# Altium integrated library TI_Logic_Specialty_Logic.IntLib: 2504 symbols (part 12 of 81)
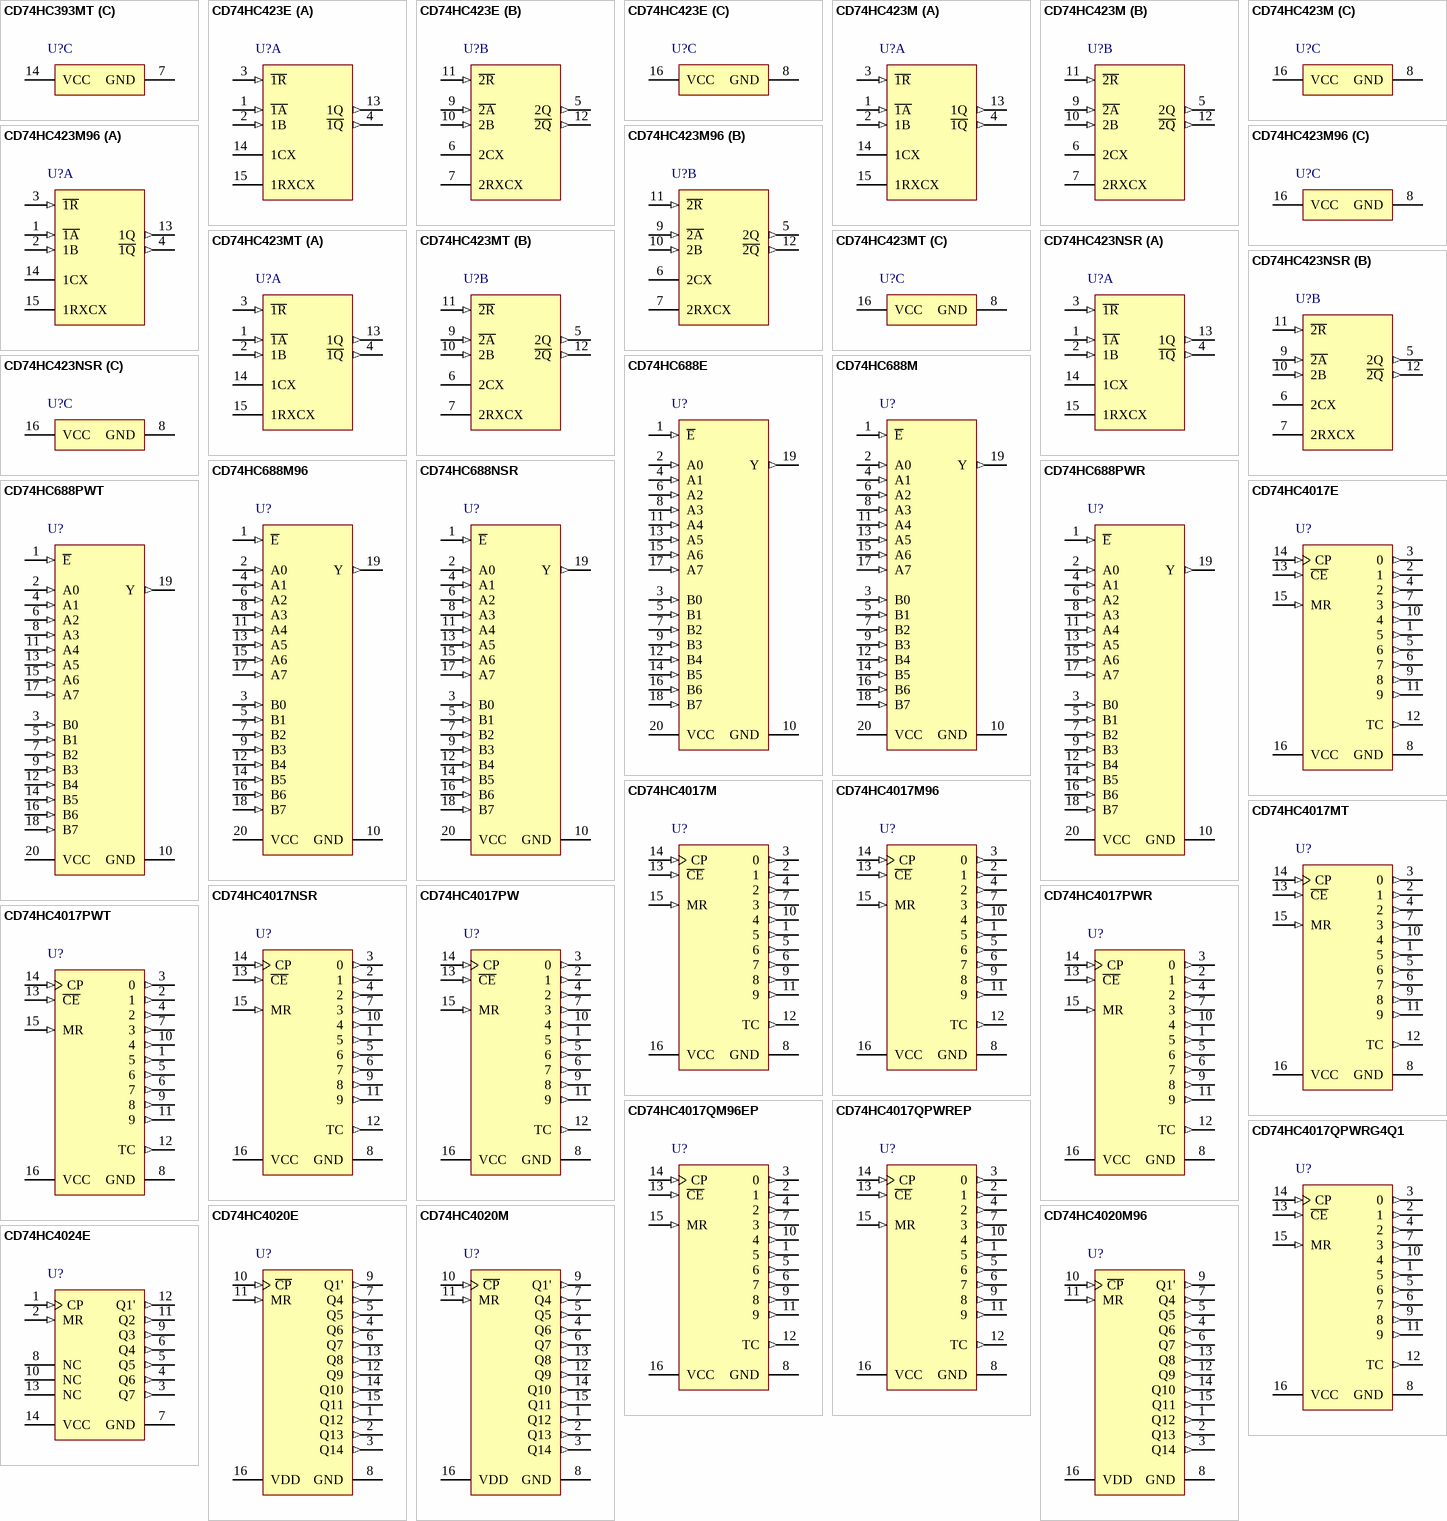
[diagram p115: symbols CD74HC393MT to CD74HC4024E]

## CD74HC688PWR
designator U?
8-Bit Identity/Magnitude Comparators (P=Q) with Enable, PW0020A, LARGE T&R; Generic Part Number: CD74HC688; Manufacturer: Texas Instruments; PartNumber: CD74HC688PWR; VCC(Min)(V): 2; VCC(Max)(V): 6; Output Type: CMOS; ICC @ Nom Voltage(Max)(mA): 0.08; Bits(#): 8; F @ Nom Voltage(Max)(Mhz): 70; Rating: Catalog; Technology Family: HC; Schmitt Trigger: No; Output Drive (IOL/IOH)(Max)(mA): 5.2/-5.2; tpd @ Nom Voltage(Max)(ns): 36; DatasheetVersion: SCHS196C; PackageReference: PW0020A; Supplier 1: Mouser; Supplier Part Number 1: 595-CD74HC688PWR; Supplier 2: Digi-Key; Supplier Part Number 2: 296-28646-2-ND; Supplier 3: Digi-Key; Supplier Part Number 3: 296-28646-1-ND; Supplier 4: Digi-Key; Supplier Part Number 4: 296-28646-6-ND; Input Type: CMOS; Operating Temperature Range(C): -55 to 125; Voltage(Nom)(V): 6; ComponentLink1Description: Manufacturer URL; ComponentLink1URL: http://www.ti.com/; ComponentLink2Description: Datasheet; ComponentLink2URL: http://www.ti.com/lit/ds/symlink/cd74hc688.pdf
footprint PW0020A_N (SOP, 20-Leads, Body 6.6x4.5mm, Pitch 0.65mm, IPC Medium Density)
footprint PW0020A_M (SOP, 20-Leads, Body 6.6x4.5mm, Pitch 0.65mm, IPC Low Density)
footprint PW0020A_L (SOP, 20-Leads, Body 6.6x4.5mm, Pitch 0.65mm, IPC High Density)
pins: 1 ~{E} (in), 2 A0 (in), 3 B0 (in), 4 A1 (in), 5 B1 (in), 6 A2 (in), 7 B2 (in), 8 A3 (in), 9 B3 (in), 10 GND (power), 11 A4 (in), 12 B4 (in), 13 A5 (in), 14 B5 (in), 15 A6 (in), 16 B6 (in), 17 A7 (in), 18 B7 (in), 19 Y (out), 20 VCC (power)

## CD74HC688PWT
designator U?
8-Bit Identity/Magnitude Comparators (P=Q) with Enable, PW0020A, SMALL T&R; Generic Part Number: CD74HC688; Manufacturer: Texas Instruments; PartNumber: CD74HC688PWT; VCC(Min)(V): 2; VCC(Max)(V): 6; Output Type: CMOS; ICC @ Nom Voltage(Max)(mA): 0.08; Bits(#): 8; F @ Nom Voltage(Max)(Mhz): 70; Rating: Catalog; Technology Family: HC; Schmitt Trigger: No; Output Drive (IOL/IOH)(Max)(mA): 5.2/-5.2; tpd @ Nom Voltage(Max)(ns): 36; DatasheetVersion: SCHS196C; PackageReference: PW0020A; Supplier 1: Mouser; Supplier Part Number 1: 595-CD74HC688PWT; Supplier 2: Digi-Key; Supplier Part Number 2: 296-28201-2-ND; Supplier 3: Digi-Key; Supplier Part Number 3: 296-28201-1-ND; Supplier 4: Digi-Key; Supplier Part Number 4: 296-28201-6-ND; Input Type: CMOS; Operating Temperature Range(C): -55 to 125; Voltage(Nom)(V): 6; ComponentLink1Description: Manufacturer URL; ComponentLink1URL: http://www.ti.com/; ComponentLink2Description: Datasheet; ComponentLink2URL: http://www.ti.com/lit/ds/symlink/cd74hc688.pdf
footprint PW0020A_N (SOP, 20-Leads, Body 6.6x4.5mm, Pitch 0.65mm, IPC Medium Density)
footprint PW0020A_M (SOP, 20-Leads, Body 6.6x4.5mm, Pitch 0.65mm, IPC Low Density)
footprint PW0020A_L (SOP, 20-Leads, Body 6.6x4.5mm, Pitch 0.65mm, IPC High Density)
pins: 1 ~{E} (in), 2 A0 (in), 3 B0 (in), 4 A1 (in), 5 B1 (in), 6 A2 (in), 7 B2 (in), 8 A3 (in), 9 B3 (in), 10 GND (power), 11 A4 (in), 12 B4 (in), 13 A5 (in), 14 B5 (in), 15 A6 (in), 16 B6 (in), 17 A7 (in), 18 B7 (in), 19 Y (out), 20 VCC (power)

## CD74HC4017E
designator U?
High Speed CMOS Logic Decade Counter/Divider with 10 Decoded Outputs, N0016A, TUBE; Generic Part Number: CD74HC4017; Manufacturer: Texas Instruments; PartNumber: CD74HC4017E; VCC(Min)(V): 2; VCC(Max)(V): 6; Inputs: 1; ICC @ Nom Voltage(Max)(mA): 0.08; Input Type: LVTTL/CMOS; Bits(#): 10; F @ Nom Voltage(Max)(Mhz): 28; Rating: Catalog; Technology Family: HC; Voltage(Nom)(V): 3.3,5; Schmitt Trigger: No; Output Drive (IOL/IOH)(Max)(mA): 5.2/-5.2; tpd @ Nom Voltage(Max)(ns): 54; DatasheetVersion: SCHS200D; PackageReference: N0016A; Supplier 1: Mouser; Supplier Part Number 1: 595-CD74HC4017E; Supplier 2: Digi-Key; Supplier Part Number 2: 296-25989-5-ND; Output Type: CMOS; Function: Counter; Operating Temperature Range(C): -55 to 125; Type: Decade; Code_JEDEC: MS-001; ComponentLink1Description: Manufacturer URL; ComponentLink1URL: http://www.ti.com/; ComponentLink2Description: Datasheet; ComponentLink2URL: http://www.ti.com/lit/ds/symlink/cd74hc4017.pdf; ComponentLink3Description: Package Specification; ComponentLink3URL: http://www.ti.com/lit/ml/mpdi002c/mpdi002c.pdf
footprint N0016A (DIP, 16-Leads, Body 19.7x6.6mm, Pitch 2.54mm)
pins: 1 5 (out), 2 1 (out), 3 0 (out), 4 2 (out), 5 6 (out), 6 7 (out), 7 3 (out), 8 GND (power), 9 8 (out), 10 4 (out), 11 9 (out), 12 TC (out), 13 ~{CE} (in), 14 CP (in), 15 MR (in), 16 VCC (power)

## CD74HC4017M
designator U?
High Speed CMOS Logic Decade Counter/Divider with 10 Decoded Outputs, D0016A, TUBE; Generic Part Number: CD74HC4017; Manufacturer: Texas Instruments; PartNumber: CD74HC4017M; VCC(Min)(V): 2; VCC(Max)(V): 6; Inputs: 1; ICC @ Nom Voltage(Max)(mA): 0.08; Input Type: LVTTL/CMOS; Bits(#): 10; F @ Nom Voltage(Max)(Mhz): 28; Rating: Catalog; Technology Family: HC; Voltage(Nom)(V): 3.3,5; Schmitt Trigger: No; Output Drive (IOL/IOH)(Max)(mA): 5.2/-5.2; tpd @ Nom Voltage(Max)(ns): 54; DatasheetVersion: SCHS200D; PackageReference: D0016A; Supplier 1: Mouser; Supplier Part Number 1: 595-CD74HC4017M; Supplier 2: Digi-Key; Supplier Part Number 2: 296-25990-5-ND; Output Type: CMOS; Function: Counter; Operating Temperature Range(C): -55 to 125; Type: Decade; Code_JEDEC: MS-012 variation AC; ComponentLink1Description: Manufacturer URL; ComponentLink1URL: http://www.ti.com/; ComponentLink2Description: Datasheet; ComponentLink2URL: http://www.ti.com/lit/ds/symlink/cd74hc4017.pdf; ComponentLink3Description: Package Specification; ComponentLink3URL: http://www.ti.com/lit/ml/mpds178g/mpds178g.pdf
footprint D0016A_N (SOIC, 16-Leads, Body 10x4mm, Pitch 1.27mm, IPC Medium Density)
footprint D0016A_M (SOIC, 16-Leads, Body 10x4mm, Pitch 1.27mm, IPC Low Density)
footprint D0016A_L (SOIC, 16-Leads, Body 10x4mm, Pitch 1.27mm, IPC High Density)
pins: 1 5 (out), 2 1 (out), 3 0 (out), 4 2 (out), 5 6 (out), 6 7 (out), 7 3 (out), 8 GND (power), 9 8 (out), 10 4 (out), 11 9 (out), 12 TC (out), 13 ~{CE} (in), 14 CP (in), 15 MR (in), 16 VCC (power)

## CD74HC4017M96
designator U?
High Speed CMOS Logic Decade Counter/Divider with 10 Decoded Outputs, D0016A, LARGE T&R; Generic Part Number: CD74HC4017; Manufacturer: Texas Instruments; PartNumber: CD74HC4017M96; VCC(Min)(V): 2; VCC(Max)(V): 6; Inputs: 1; ICC @ Nom Voltage(Max)(mA): 0.08; Input Type: LVTTL/CMOS; Bits(#): 10; F @ Nom Voltage(Max)(Mhz): 28; Rating: Catalog; Technology Family: HC; Voltage(Nom)(V): 3.3,5; Schmitt Trigger: No; Output Drive (IOL/IOH)(Max)(mA): 5.2/-5.2; tpd @ Nom Voltage(Max)(ns): 54; DatasheetVersion: SCHS200D; PackageReference: D0016A; Supplier 1: Mouser; Supplier Part Number 1: 595-CD74HC4017M96; Supplier 2: Digi-Key; Supplier Part Number 2: 296-12808-2-ND; Supplier 3: Digi-Key; Supplier Part Number 3: 296-12808-1-ND; Supplier 4: Digi-Key; Supplier Part Number 4: 296-12808-6-ND; Output Type: CMOS; Function: Counter; Operating Temperature Range(C): -55 to 125; Type: Decade; Code_JEDEC: MS-012 variation AC; ComponentLink1Description: Manufacturer URL; ComponentLink1URL: http://www.ti.com/; ComponentLink2Description: Datasheet; ComponentLink2URL: http://www.ti.com/lit/ds/symlink/cd74hc4017.pdf; ComponentLink3Description: Package Specification; ComponentLink3URL: http://www.ti.com/lit/ml/mpds178g/mpds178g.pdf
footprint D0016A_N (SOIC, 16-Leads, Body 10x4mm, Pitch 1.27mm, IPC Medium Density)
footprint D0016A_M (SOIC, 16-Leads, Body 10x4mm, Pitch 1.27mm, IPC Low Density)
footprint D0016A_L (SOIC, 16-Leads, Body 10x4mm, Pitch 1.27mm, IPC High Density)
pins: 1 5 (out), 2 1 (out), 3 0 (out), 4 2 (out), 5 6 (out), 6 7 (out), 7 3 (out), 8 GND (power), 9 8 (out), 10 4 (out), 11 9 (out), 12 TC (out), 13 ~{CE} (in), 14 CP (in), 15 MR (in), 16 VCC (power)

## CD74HC4017MT
designator U?
High Speed CMOS Logic Decade Counter/Divider with 10 Decoded Outputs, D0016A, SMALL T&R; Generic Part Number: CD74HC4017; Manufacturer: Texas Instruments; PartNumber: CD74HC4017MT; VCC(Min)(V): 2; VCC(Max)(V): 6; Inputs: 1; ICC @ Nom Voltage(Max)(mA): 0.08; Input Type: LVTTL/CMOS; Bits(#): 10; F @ Nom Voltage(Max)(Mhz): 28; Rating: Catalog; Technology Family: HC; Voltage(Nom)(V): 3.3,5; Schmitt Trigger: No; Output Drive (IOL/IOH)(Max)(mA): 5.2/-5.2; tpd @ Nom Voltage(Max)(ns): 54; DatasheetVersion: SCHS200D; PackageReference: D0016A; Supplier 1: Mouser; Supplier Part Number 1: 595-CD74HC4017MT; Supplier 2: Digi-Key; Supplier Part Number 2: 296-32067-2-ND; Supplier 3: Digi-Key; Supplier Part Number 3: 296-32067-1-ND; Supplier 4: Digi-Key; Supplier Part Number 4: 296-32067-6-ND; Output Type: CMOS; Function: Counter; Operating Temperature Range(C): -55 to 125; Type: Decade; Code_JEDEC: MS-012 variation AC; ComponentLink1Description: Manufacturer URL; ComponentLink1URL: http://www.ti.com/; ComponentLink2Description: Datasheet; ComponentLink2URL: http://www.ti.com/lit/ds/symlink/cd74hc4017.pdf; ComponentLink3Description: Package Specification; ComponentLink3URL: http://www.ti.com/lit/ml/mpds178g/mpds178g.pdf
footprint D0016A_N (SOIC, 16-Leads, Body 10x4mm, Pitch 1.27mm, IPC Medium Density)
footprint D0016A_M (SOIC, 16-Leads, Body 10x4mm, Pitch 1.27mm, IPC Low Density)
footprint D0016A_L (SOIC, 16-Leads, Body 10x4mm, Pitch 1.27mm, IPC High Density)
pins: 1 5 (out), 2 1 (out), 3 0 (out), 4 2 (out), 5 6 (out), 6 7 (out), 7 3 (out), 8 GND (power), 9 8 (out), 10 4 (out), 11 9 (out), 12 TC (out), 13 ~{CE} (in), 14 CP (in), 15 MR (in), 16 VCC (power)

## CD74HC4017NSR
designator U?
High Speed CMOS Logic Decade Counter/Divider with 10 Decoded Outputs, NS0016A, LARGE T&R; Generic Part Number: CD74HC4017; Manufacturer: Texas Instruments; PartNumber: CD74HC4017NSR; VCC(Min)(V): 2; VCC(Max)(V): 6; Inputs: 1; ICC @ Nom Voltage(Max)(mA): 0.08; Input Type: LVTTL/CMOS; Bits(#): 10; F @ Nom Voltage(Max)(Mhz): 28; Rating: Catalog; Technology Family: HC; Voltage(Nom)(V): 3.3,5; Schmitt Trigger: No; Output Drive (IOL/IOH)(Max)(mA): 5.2/-5.2; tpd @ Nom Voltage(Max)(ns): 54; DatasheetVersion: SCHS200D; PackageReference: NS0016A; Supplier 1: Mouser; Supplier Part Number 1: 595-CD74HC4017NSR; Supplier 2: Digi-Key; Supplier Part Number 2: 296-29989-2-ND; Supplier 3: Digi-Key; Supplier Part Number 3: 296-29989-1-ND; Supplier 4: Digi-Key; Supplier Part Number 4: 296-29989-6-ND; Output Type: CMOS; Function: Counter; Operating Temperature Range(C): -55 to 125; Type: Decade; ComponentLink1Description: Manufacturer URL; ComponentLink1URL: http://www.ti.com/; ComponentLink2Description: Datasheet; ComponentLink2URL: http://www.ti.com/lit/ds/symlink/cd74hc4017.pdf; ComponentLink3Description: Package Specification; ComponentLink3URL: http://www.ti.com/lit/ml/msop002a/msop002a.pdf
footprint NS0016A_N (SOIC,16-Leads,Body 10.5x5.6mm,Pitch 1.27mm,IPC Medium Density)
footprint NS0016A_M (SOIC,16-Leads,Body 10.5x5.6mm,Pitch 1.27mm,IPC Low Density)
footprint NS0016A_L (SOIC,16-Leads,Body 10.5x5.6mm,Pitch 1.27mm,IPC High Density)
pins: 1 5 (out), 2 1 (out), 3 0 (out), 4 2 (out), 5 6 (out), 6 7 (out), 7 3 (out), 8 GND (power), 9 8 (out), 10 4 (out), 11 9 (out), 12 TC (out), 13 ~{CE} (in), 14 CP (in), 15 MR (in), 16 VCC (power)

## CD74HC4017PW
designator U?
High Speed CMOS Logic Decade Counter/Divider with 10 Decoded Outputs, PW0016A, TUBE; Generic Part Number: CD74HC4017; Manufacturer: Texas Instruments; PartNumber: CD74HC4017PW; VCC(Min)(V): 2; VCC(Max)(V): 6; Inputs: 1; ICC @ Nom Voltage(Max)(mA): 0.08; Input Type: LVTTL/CMOS; Bits(#): 10; F @ Nom Voltage(Max)(Mhz): 28; Rating: Catalog; Technology Family: HC; Voltage(Nom)(V): 3.3,5; Schmitt Trigger: No; Output Drive (IOL/IOH)(Max)(mA): 5.2/-5.2; tpd @ Nom Voltage(Max)(ns): 54; DatasheetVersion: SCHS200D; PackageReference: PW0016A; Supplier 1: Mouser; Supplier Part Number 1: 595-CD74HC4017PW; Supplier 2: Digi-Key; Supplier Part Number 2: 296-33083-5-ND; Output Type: CMOS; Function: Counter; Operating Temperature Range(C): -55 to 125; Type: Decade; Code_JEDEC: MO-153; ComponentLink1Description: Manufacturer URL; ComponentLink1URL: http://www.ti.com/; ComponentLink2Description: Datasheet; ComponentLink2URL: http://www.ti.com/lit/ds/symlink/cd74hc4017.pdf; ComponentLink3Description: Package Specification; ComponentLink3URL: http://www.ti.com/lit/ml/mpds361/mpds361.pdf
footprint PW0016A_N (SOP, 16-Leads, Body 5.1x4.5mm, Pitch 0.65mm, IPC Medium Density)
footprint PW0016A_M (SOP, 16-Leads, Body 5.1x4.5mm, Pitch 0.65mm, IPC Low Density)
footprint PW0016A_L (SOP, 16-Leads, Body 5.1x4.5mm, Pitch 0.65mm, IPC High Density)
pins: 1 5 (out), 2 1 (out), 3 0 (out), 4 2 (out), 5 6 (out), 6 7 (out), 7 3 (out), 8 GND (power), 9 8 (out), 10 4 (out), 11 9 (out), 12 TC (out), 13 ~{CE} (in), 14 CP (in), 15 MR (in), 16 VCC (power)

## CD74HC4017PWR
designator U?
High Speed CMOS Logic Decade Counter/Divider with 10 Decoded Outputs, PW0016A, LARGE T&R; Generic Part Number: CD74HC4017; Manufacturer: Texas Instruments; PartNumber: CD74HC4017PWR; VCC(Min)(V): 2; VCC(Max)(V): 6; Inputs: 1; ICC @ Nom Voltage(Max)(mA): 0.08; Input Type: LVTTL/CMOS; Bits(#): 10; F @ Nom Voltage(Max)(Mhz): 28; Rating: Catalog; Technology Family: HC; Voltage(Nom)(V): 3.3,5; Schmitt Trigger: No; Output Drive (IOL/IOH)(Max)(mA): 5.2/-5.2; tpd @ Nom Voltage(Max)(ns): 54; DatasheetVersion: SCHS200D; PackageReference: PW0016A; Supplier 1: Mouser; Supplier Part Number 1: 595-CD74HC4017PWR; Supplier 2: Digi-Key; Supplier Part Number 2: 296-9423-2-ND; Supplier 3: Digi-Key; Supplier Part Number 3: 296-9423-1-ND; Supplier 4: Digi-Key; Supplier Part Number 4: 296-9423-6-ND; Output Type: CMOS; Function: Counter; Operating Temperature Range(C): -55 to 125; Type: Decade; Code_JEDEC: MO-153; ComponentLink1Description: Manufacturer URL; ComponentLink1URL: http://www.ti.com/; ComponentLink2Description: Datasheet; ComponentLink2URL: http://www.ti.com/lit/ds/symlink/cd74hc4017.pdf; ComponentLink3Description: Package Specification; ComponentLink3URL: http://www.ti.com/lit/ml/mpds361/mpds361.pdf
footprint PW0016A_N (SOP, 16-Leads, Body 5.1x4.5mm, Pitch 0.65mm, IPC Medium Density)
footprint PW0016A_M (SOP, 16-Leads, Body 5.1x4.5mm, Pitch 0.65mm, IPC Low Density)
footprint PW0016A_L (SOP, 16-Leads, Body 5.1x4.5mm, Pitch 0.65mm, IPC High Density)
pins: 1 5 (out), 2 1 (out), 3 0 (out), 4 2 (out), 5 6 (out), 6 7 (out), 7 3 (out), 8 GND (power), 9 8 (out), 10 4 (out), 11 9 (out), 12 TC (out), 13 ~{CE} (in), 14 CP (in), 15 MR (in), 16 VCC (power)

## CD74HC4017PWT
designator U?
High Speed CMOS Logic Decade Counter/Divider with 10 Decoded Outputs, PW0016A, SMALL T&R; Generic Part Number: CD74HC4017; Manufacturer: Texas Instruments; PartNumber: CD74HC4017PWT; VCC(Min)(V): 2; VCC(Max)(V): 6; Inputs: 1; ICC @ Nom Voltage(Max)(mA): 0.08; Input Type: LVTTL/CMOS; Bits(#): 10; F @ Nom Voltage(Max)(Mhz): 28; Rating: Catalog; Technology Family: HC; Voltage(Nom)(V): 3.3,5; Schmitt Trigger: No; Output Drive (IOL/IOH)(Max)(mA): 5.2/-5.2; tpd @ Nom Voltage(Max)(ns): 54; DatasheetVersion: SCHS200D; PackageReference: PW0016A; Supplier 1: Mouser; Supplier Part Number 1: 595-CD74HC4017PWT; Supplier 2: Digi-Key; Supplier Part Number 2: CD74HC4017PWT-ND; Output Type: CMOS; Function: Counter; Operating Temperature Range(C): -55 to 125; Type: Decade; Code_JEDEC: MO-153; ComponentLink1Description: Manufacturer URL; ComponentLink1URL: http://www.ti.com/; ComponentLink2Description: Datasheet; ComponentLink2URL: http://www.ti.com/lit/ds/symlink/cd74hc4017.pdf; ComponentLink3Description: Package Specification; ComponentLink3URL: http://www.ti.com/lit/ml/mpds361/mpds361.pdf
footprint PW0016A_N (SOP, 16-Leads, Body 5.1x4.5mm, Pitch 0.65mm, IPC Medium Density)
footprint PW0016A_M (SOP, 16-Leads, Body 5.1x4.5mm, Pitch 0.65mm, IPC Low Density)
footprint PW0016A_L (SOP, 16-Leads, Body 5.1x4.5mm, Pitch 0.65mm, IPC High Density)
pins: 1 5 (out), 2 1 (out), 3 0 (out), 4 2 (out), 5 6 (out), 6 7 (out), 7 3 (out), 8 GND (power), 9 8 (out), 10 4 (out), 11 9 (out), 12 TC (out), 13 ~{CE} (in), 14 CP (in), 15 MR (in), 16 VCC (power)

## CD74HC4017QM96EP
designator U?
Enhanced Product Decade Counter/Divider With 10 Decoded Outputs, D0016A, LARGE T&R; Generic Part Number: CD74HC4017-EP; Manufacturer: Texas Instruments; PartNumber: CD74HC4017QM96EP; VCC(Min)(V): 2; VCC(Max)(V): 6; Inputs: 1; ICC @ Nom Voltage(Max)(mA): 0.08; Bits(#): 10; F @ Nom Voltage(Max)(Mhz): 28; Rating: HiRel Enhanced Product; Technology Family: HC; Output Drive (IOL/IOH)(Max)(mA): 5.2/-5.2; tpd @ Nom Voltage(Max)(ns): 54; DatasheetVersion: SCLS550; PackageReference: D0016A; Supplier 1: Mouser; Supplier Part Number 1: 595-CD74HC4017QM96EP; Supplier 2: Digi-Key; Supplier Part Number 2: 296-22102-2-ND; Supplier 3: Digi-Key; Supplier Part Number 3: 296-22102-1-ND; Supplier 4: Digi-Key; Supplier Part Number 4: 296-22102-6-ND; Function: Counter; Operating Temperature Range(C): -40 to 125; Type: Decade; Voltage(Nom)(V): 6; Code_JEDEC: MS-012 variation AC; ComponentLink1Description: Manufacturer URL; ComponentLink1URL: http://www.ti.com/; ComponentLink2Description: Datasheet; ComponentLink2URL: http://www.ti.com/lit/ds/symlink/cd74hc4017-ep.pdf; ComponentLink3Description: Package Specification; ComponentLink3URL: http://www.ti.com/lit/ml/mpds178g/mpds178g.pdf
footprint D0016A_N (SOIC, 16-Leads, Body 10x4mm, Pitch 1.27mm, IPC Medium Density)
footprint D0016A_M (SOIC, 16-Leads, Body 10x4mm, Pitch 1.27mm, IPC Low Density)
footprint D0016A_L (SOIC, 16-Leads, Body 10x4mm, Pitch 1.27mm, IPC High Density)
pins: 1 5 (out), 2 1 (out), 3 0 (out), 4 2 (out), 5 6 (out), 6 7 (out), 7 3 (out), 8 GND (power), 9 8 (out), 10 4 (out), 11 9 (out), 12 TC (out), 13 ~{CE} (in), 14 CP (in), 15 MR (in), 16 VCC (power)

## CD74HC4017QPWREP
designator U?
Enhanced Product Decade Counter/Divider With 10 Decoded Outputs, PW0016A, LARGE T&R; Generic Part Number: CD74HC4017-EP; Manufacturer: Texas Instruments; PartNumber: CD74HC4017QPWREP; VCC(Min)(V): 2; VCC(Max)(V): 6; Inputs: 1; ICC @ Nom Voltage(Max)(mA): 0.08; Bits(#): 10; F @ Nom Voltage(Max)(Mhz): 28; Rating: HiRel Enhanced Product; Technology Family: HC; Output Drive (IOL/IOH)(Max)(mA): 5.2/-5.2; tpd @ Nom Voltage(Max)(ns): 54; DatasheetVersion: SCLS550; PackageReference: PW0016A; Supplier 1: Mouser; Supplier Part Number 1: 595-CD74HC4017QPWREP; Supplier 2: Digi-Key; Supplier Part Number 2: 296-22103-2-ND; Supplier 3: Digi-Key; Supplier Part Number 3: 296-22103-1-ND; Supplier 4: Digi-Key; Supplier Part Number 4: 296-22103-6-ND; Function: Counter; Operating Temperature Range(C): -40 to 125; Type: Decade; Voltage(Nom)(V): 6; Code_JEDEC: MO-153; ComponentLink1Description: Manufacturer URL; ComponentLink1URL: http://www.ti.com/; ComponentLink2Description: Datasheet; ComponentLink2URL: http://www.ti.com/lit/ds/symlink/cd74hc4017-ep.pdf; ComponentLink3Description: Package Specification; ComponentLink3URL: http://www.ti.com/lit/ml/mpds361/mpds361.pdf
footprint PW0016A_N (SOP, 16-Leads, Body 5.1x4.5mm, Pitch 0.65mm, IPC Medium Density)
footprint PW0016A_M (SOP, 16-Leads, Body 5.1x4.5mm, Pitch 0.65mm, IPC Low Density)
footprint PW0016A_L (SOP, 16-Leads, Body 5.1x4.5mm, Pitch 0.65mm, IPC High Density)
pins: 1 5 (out), 2 1 (out), 3 0 (out), 4 2 (out), 5 6 (out), 6 7 (out), 7 3 (out), 8 GND (power), 9 8 (out), 10 4 (out), 11 9 (out), 12 TC (out), 13 ~{CE} (in), 14 CP (in), 15 MR (in), 16 VCC (power)

## CD74HC4017QPWRG4Q1
designator U?
Automotive Catalog Decade Counter/Divider with 10 Decoded Outputs, PW0016A, LARGE T&R; Generic Part Number: CD74HC4017-Q1; Manufacturer: Texas Instruments; PartNumber: CD74HC4017QPWRG4Q1; VCC(Min)(V): 2; VCC(Max)(V): 6; Output Type: CMOS; Inputs: 1; ICC @ Nom Voltage(Max)(mA): 0.08; Input Type: LVTTL/CMOS; Bits(#): 10; F @ Nom Voltage(Max)(Mhz): 28; Technology Family: HC; Voltage(Nom)(V): 3.3,5; Schmitt Trigger: No; Output Drive (IOL/IOH)(Max)(mA): 5.2/-5.2; tpd @ Nom Voltage(Max)(ns): 54; DatasheetVersion: SCLS546SA; PackageReference: PW0016A; Supplier 1: Mouser; Supplier Part Number 1: 595-74HC4017QPWRG4Q1; Supplier 2: Digi-Key; Supplier Part Number 2: 296-31586-2-ND; Supplier 3: Digi-Key; Supplier Part Number 3: 296-31586-1-ND; Supplier 4: Digi-Key; Supplier Part Number 4: 296-31586-6-ND; Function: Counter; Operating Temperature Range(C): -40 to 125; Type: Decade; Rating: Automotive; Code_JEDEC: MO-153; ComponentLink1Description: Manufacturer URL; ComponentLink1URL: http://www.ti.com/; ComponentLink2Description: Datasheet; ComponentLink2URL: http://www.ti.com/lit/ds/symlink/cd74hc4017-q1.pdf; ComponentLink3Description: Package Specification; ComponentLink3URL: http://www.ti.com/lit/ml/mpds361/mpds361.pdf
footprint PW0016A_N (SOP, 16-Leads, Body 5.1x4.5mm, Pitch 0.65mm, IPC Medium Density)
footprint PW0016A_M (SOP, 16-Leads, Body 5.1x4.5mm, Pitch 0.65mm, IPC Low Density)
footprint PW0016A_L (SOP, 16-Leads, Body 5.1x4.5mm, Pitch 0.65mm, IPC High Density)
pins: 1 5 (out), 2 1 (out), 3 0 (out), 4 2 (out), 5 6 (out), 6 7 (out), 7 3 (out), 8 GND (power), 9 8 (out), 10 4 (out), 11 9 (out), 12 TC (out), 13 ~{CE} (in), 14 CP (in), 15 MR (in), 16 VCC (power)

## CD74HC4020E
designator U?
High Speed CMOS Logic 14-Stage Binary Counter, N0016A, TUBE; Generic Part Number: CD74HC4020; Manufacturer: Texas Instruments; PartNumber: CD74HC4020E; VCC(Min)(V): 2; VCC(Max)(V): 6; Inputs: 1; ICC @ Nom Voltage(Max)(mA): 0.08; Input Type: LVTTL/CMOS; Bits(#): 14; F @ Nom Voltage(Max)(Mhz): 28; Rating: Catalog; Technology Family: HC; Voltage(Nom)(V): 3.3,5; Schmitt Trigger: No; Output Drive (IOL/IOH)(Max)(mA): 5.2/-5.2; tpd @ Nom Voltage(Max)(ns): 30; DatasheetVersion: SCHS201C; PackageReference: N0016A; Supplier 1: Mouser; Supplier Part Number 1: 595-CD74HC4020E; Supplier 2: Digi-Key; Supplier Part Number 2: 296-25991-5-ND; Output Type: CMOS; Function: Counter; Operating Temperature Range(C): -55 to 125; Type: Binary; Code_JEDEC: MS-001; ComponentLink1Description: Manufacturer URL; ComponentLink1URL: http://www.ti.com/; ComponentLink2Description: Datasheet; ComponentLink2URL: http://www.ti.com/lit/ds/symlink/cd74hc4020.pdf; ComponentLink3Description: Package Specification; ComponentLink3URL: http://www.ti.com/lit/ml/mpdi002c/mpdi002c.pdf
footprint N0016A (DIP, 16-Leads, Body 19.7x6.6mm, Pitch 2.54mm)
pins: 1 Q12 (out), 2 Q13 (out), 3 Q14 (out), 4 Q6 (out), 5 Q5 (out), 6 Q7 (out), 7 Q4 (out), 8 GND (power), 9 Q1' (out), 10 ~{CP} (in), 11 MR (in), 12 Q9 (out), 13 Q8 (out), 14 Q10 (out), 15 Q11 (out), 16 VDD (power)

## CD74HC4020M
designator U?
High Speed CMOS Logic 14-Stage Binary Counter, D0016A, TUBE; Generic Part Number: CD74HC4020; Manufacturer: Texas Instruments; PartNumber: CD74HC4020M; VCC(Min)(V): 2; VCC(Max)(V): 6; Inputs: 1; ICC @ Nom Voltage(Max)(mA): 0.08; Input Type: LVTTL/CMOS; Bits(#): 14; F @ Nom Voltage(Max)(Mhz): 28; Rating: Catalog; Technology Family: HC; Voltage(Nom)(V): 3.3,5; Schmitt Trigger: No; Output Drive (IOL/IOH)(Max)(mA): 5.2/-5.2; tpd @ Nom Voltage(Max)(ns): 30; DatasheetVersion: SCHS201C; PackageReference: D0016A; Supplier 1: Mouser; Supplier Part Number 1: 595-CD74HC4020M; Supplier 2: Digi-Key; Supplier Part Number 2: 296-25992-5-ND; Output Type: CMOS; Function: Counter; Operating Temperature Range(C): -55 to 125; Type: Binary; Code_JEDEC: MS-012 variation AC; ComponentLink1Description: Manufacturer URL; ComponentLink1URL: http://www.ti.com/; ComponentLink2Description: Datasheet; ComponentLink2URL: http://www.ti.com/lit/ds/symlink/cd74hc4020.pdf; ComponentLink3Description: Package Specification; ComponentLink3URL: http://www.ti.com/lit/ml/mpds178g/mpds178g.pdf
footprint D0016A_N (SOIC, 16-Leads, Body 10x4mm, Pitch 1.27mm, IPC Medium Density)
footprint D0016A_M (SOIC, 16-Leads, Body 10x4mm, Pitch 1.27mm, IPC Low Density)
footprint D0016A_L (SOIC, 16-Leads, Body 10x4mm, Pitch 1.27mm, IPC High Density)
pins: 1 Q12 (out), 2 Q13 (out), 3 Q14 (out), 4 Q6 (out), 5 Q5 (out), 6 Q7 (out), 7 Q4 (out), 8 GND (power), 9 Q1' (out), 10 ~{CP} (in), 11 MR (in), 12 Q9 (out), 13 Q8 (out), 14 Q10 (out), 15 Q11 (out), 16 VDD (power)

## CD74HC4020M96
designator U?
High Speed CMOS Logic 14-Stage Binary Counter, D0016A, LARGE T&R; Generic Part Number: CD74HC4020; Manufacturer: Texas Instruments; PartNumber: CD74HC4020M96; VCC(Min)(V): 2; VCC(Max)(V): 6; Inputs: 1; ICC @ Nom Voltage(Max)(mA): 0.08; Input Type: LVTTL/CMOS; Bits(#): 14; F @ Nom Voltage(Max)(Mhz): 28; Rating: Catalog; Technology Family: HC; Voltage(Nom)(V): 3.3,5; Schmitt Trigger: No; Output Drive (IOL/IOH)(Max)(mA): 5.2/-5.2; tpd @ Nom Voltage(Max)(ns): 30; DatasheetVersion: SCHS201C; PackageReference: D0016A; Supplier 1: Mouser; Supplier Part Number 1: 595-CD74HC4020M96; Supplier 2: Digi-Key; Supplier Part Number 2: 296-12809-2-ND; Supplier 3: Digi-Key; Supplier Part Number 3: 296-12809-1-ND; Supplier 4: Digi-Key; Supplier Part Number 4: 296-12809-6-ND; Output Type: CMOS; Function: Counter; Operating Temperature Range(C): -55 to 125; Type: Binary; Code_JEDEC: MS-012 variation AC; ComponentLink1Description: Manufacturer URL; ComponentLink1URL: http://www.ti.com/; ComponentLink2Description: Datasheet; ComponentLink2URL: http://www.ti.com/lit/ds/symlink/cd74hc4020.pdf; ComponentLink3Description: Package Specification; ComponentLink3URL: http://www.ti.com/lit/ml/mpds178g/mpds178g.pdf
footprint D0016A_N (SOIC, 16-Leads, Body 10x4mm, Pitch 1.27mm, IPC Medium Density)
footprint D0016A_M (SOIC, 16-Leads, Body 10x4mm, Pitch 1.27mm, IPC Low Density)
footprint D0016A_L (SOIC, 16-Leads, Body 10x4mm, Pitch 1.27mm, IPC High Density)
pins: 1 Q12 (out), 2 Q13 (out), 3 Q14 (out), 4 Q6 (out), 5 Q5 (out), 6 Q7 (out), 7 Q4 (out), 8 GND (power), 9 Q1' (out), 10 ~{CP} (in), 11 MR (in), 12 Q9 (out), 13 Q8 (out), 14 Q10 (out), 15 Q11 (out), 16 VDD (power)

## CD74HC4024E
designator U?
High Speed CMOS Logic 7-Stage Binary Ripple Counter, N0014A, TUBE; Generic Part Number: CD74HC4024; Manufacturer: Texas Instruments; PartNumber: CD74HC4024E; VCC(Min)(V): 2; VCC(Max)(V): 6; Inputs: 1; ICC @ Nom Voltage(Max)(mA): 0.08; Input Type: LVTTL/CMOS; Bits(#): 7; F @ Nom Voltage(Max)(Mhz): 28; Rating: Catalog; Technology Family: HC; Voltage(Nom)(V): 3.3,5; Schmitt Trigger: No; Output Drive (IOL/IOH)(Max)(mA): 5.2/-5.2; tpd @ Nom Voltage(Max)(ns): 30; DatasheetVersion: SCHS202C; PackageReference: N0014A; Supplier 1: Mouser; Supplier Part Number 1: 595-CD74HC4024E; Supplier 2: Digi-Key; Supplier Part Number 2: 296-9206-5-ND; Output Type: CMOS; Function: Counter; Operating Temperature Range(C): -55 to 125; Type: Binary; Code_JEDEC: MS-001; ComponentLink1Description: Manufacturer URL; ComponentLink1URL: http://www.ti.com/; ComponentLink2Description: Datasheet; ComponentLink2URL: http://www.ti.com/lit/ds/symlink/cd74hc4024.pdf; ComponentLink3Description: Package Specification; ComponentLink3URL: http://www.ti.com/lit/ml/mpdi002c/mpdi002c.pdf
footprint N0014A (DIP, 14-Leads, Body 19.7x6.6mm, Pitch 2.54mm)
pins: 1 CP (in), 2 MR (in), 3 Q7 (out), 4 Q6 (out), 5 Q5 (out), 6 Q4 (out), 7 GND (power), 8 NC, 9 Q3 (out), 10 NC, 11 Q2 (out), 12 Q1' (out), 13 NC, 14 VCC (power)

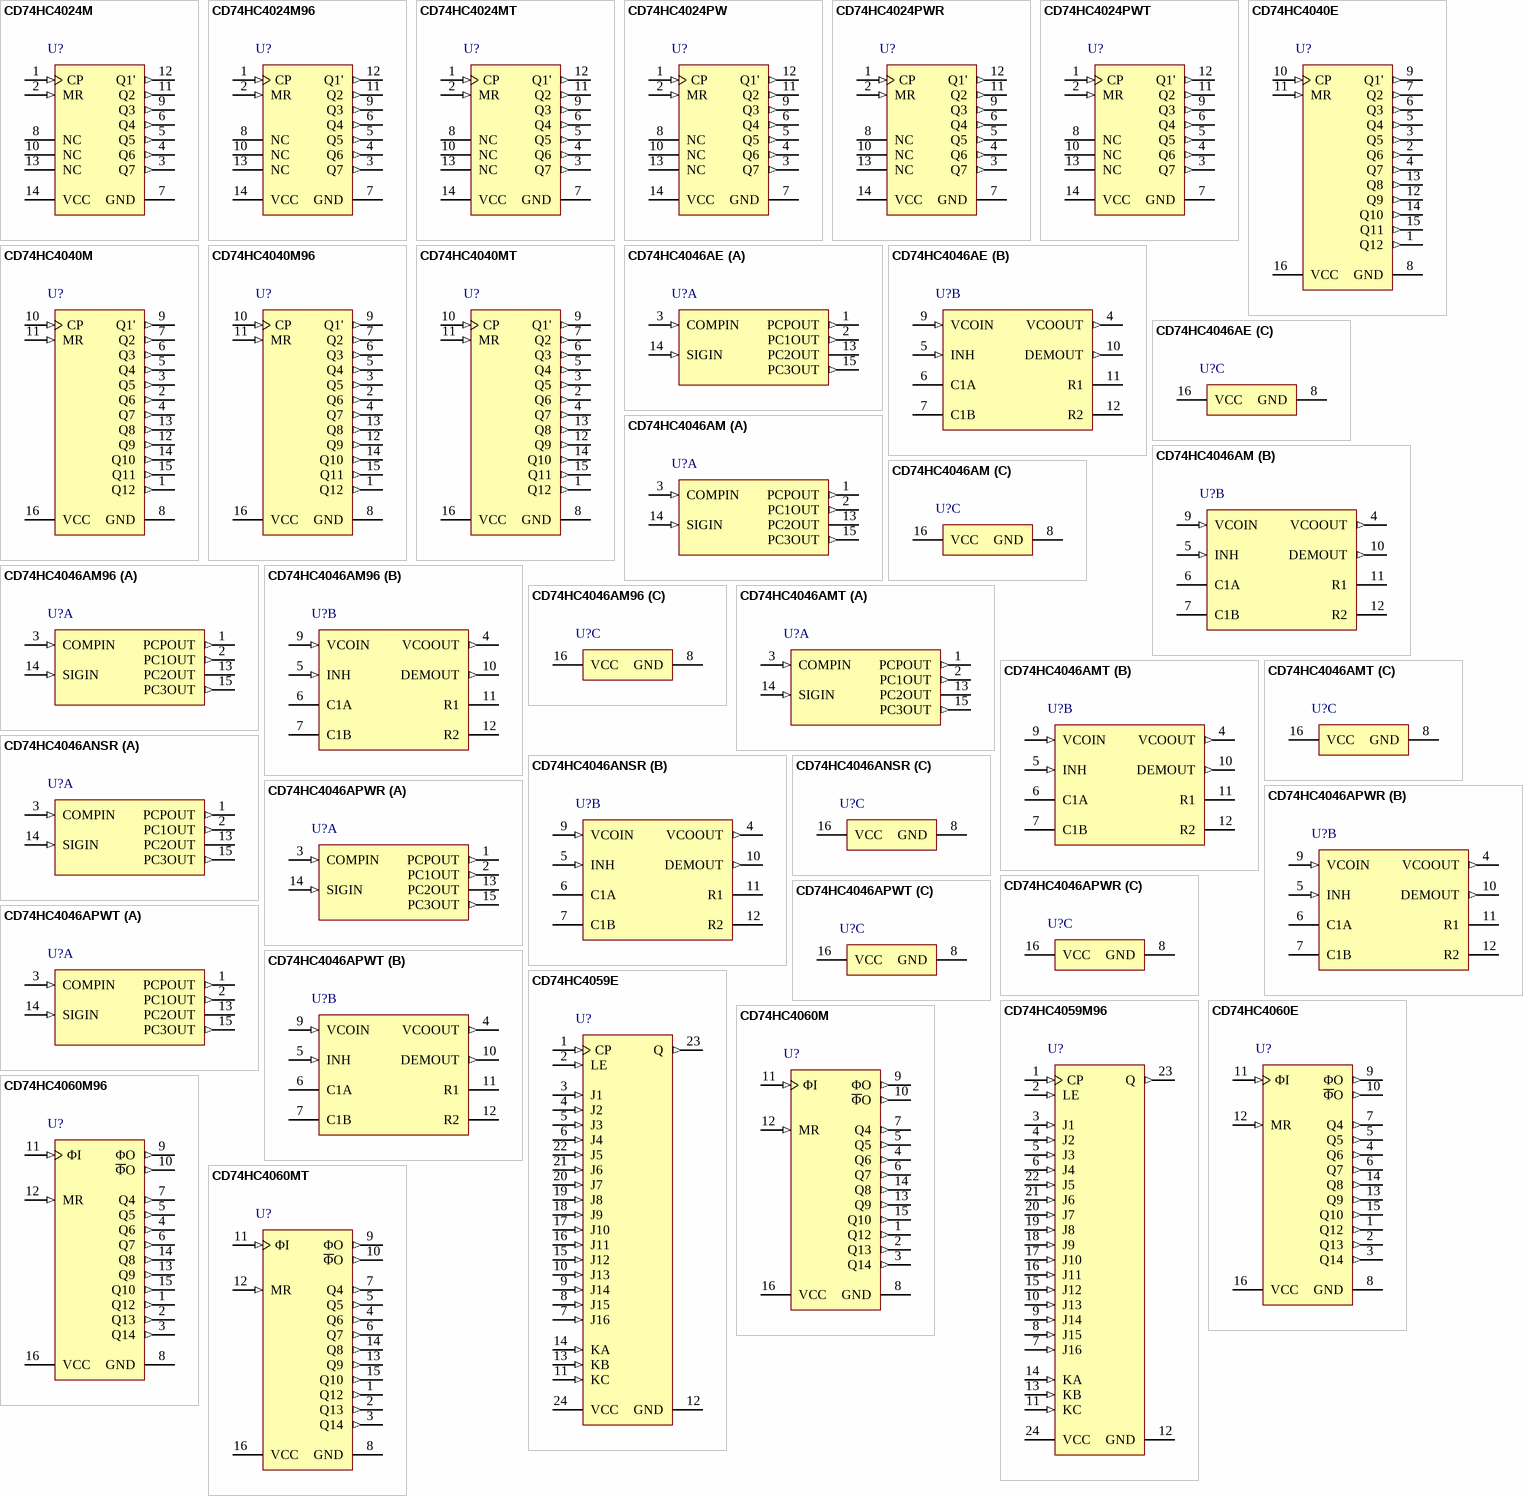
[diagram p15: symbols CD74HC4024M to CD74HC4060MT]

## CD74HC4024M
designator U?
High Speed CMOS Logic 7-Stage Binary Ripple Counter, D0014A, TUBE; Generic Part Number: CD74HC4024; Manufacturer: Texas Instruments; PartNumber: CD74HC4024M; VCC(Min)(V): 2; VCC(Max)(V): 6; Inputs: 1; ICC @ Nom Voltage(Max)(mA): 0.08; Input Type: LVTTL/CMOS; Bits(#): 7; F @ Nom Voltage(Max)(Mhz): 28; Rating: Catalog; Technology Family: HC; Voltage(Nom)(V): 3.3,5; Schmitt Trigger: No; Output Drive (IOL/IOH)(Max)(mA): 5.2/-5.2; tpd @ Nom Voltage(Max)(ns): 30; DatasheetVersion: SCHS202C; PackageReference: D0014A; Supplier 1: Mouser; Supplier Part Number 1: 595-CD74HC4024M; Supplier 2: Digi-Key; Supplier Part Number 2: 296-9207-5-ND; Output Type: CMOS; Function: Counter; Operating Temperature Range(C): -55 to 125; Type: Binary; Code_JEDEC: MS-012; ComponentLink1Description: Manufacturer URL; ComponentLink1URL: http://www.ti.com/; ComponentLink2Description: Datasheet; ComponentLink2URL: http://www.ti.com/lit/ds/symlink/cd74hc4024.pdf; ComponentLink3Description: Package Specification; ComponentLink3URL: http://www.ti.com/lit/ml/mpds177g/mpds177g.pdf
footprint D0014A_N (SOIC, 14-Leads, Body 8.75x4mm, Pitch 1.27mm, IPC Medium Density)
footprint D0014A_M (SOIC, 14-Leads, Body 8.75x4mm, Pitch 1.27mm, IPC Low Density)
footprint D0014A_L (SOIC, 14-Leads, Body 8.75x4mm, Pitch 1.27mm, IPC High Density)
pins: 1 CP (in), 2 MR (in), 3 Q7 (out), 4 Q6 (out), 5 Q5 (out), 6 Q4 (out), 7 GND (power), 8 NC, 9 Q3 (out), 10 NC, 11 Q2 (out), 12 Q1' (out), 13 NC, 14 VCC (power)

## CD74HC4024M96
designator U?
High Speed CMOS Logic 7-Stage Binary Ripple Counter, D0014A, LARGE T&R; Generic Part Number: CD74HC4024; Manufacturer: Texas Instruments; PartNumber: CD74HC4024M96; VCC(Min)(V): 2; VCC(Max)(V): 6; Inputs: 1; ICC @ Nom Voltage(Max)(mA): 0.08; Input Type: LVTTL/CMOS; Bits(#): 7; F @ Nom Voltage(Max)(Mhz): 28; Rating: Catalog; Technology Family: HC; Voltage(Nom)(V): 3.3,5; Schmitt Trigger: No; Output Drive (IOL/IOH)(Max)(mA): 5.2/-5.2; tpd @ Nom Voltage(Max)(ns): 30; DatasheetVersion: SCHS202C; PackageReference: D0014A; Supplier 1: Mouser; Supplier Part Number 1: 595-CD74HC4024M96; Supplier 2: Digi-Key; Supplier Part Number 2: 296-28474-2-ND; Supplier 3: Digi-Key; Supplier Part Number 3: 296-28474-1-ND; Supplier 4: Digi-Key; Supplier Part Number 4: 296-28474-6-ND; Output Type: CMOS; Function: Counter; Operating Temperature Range(C): -55 to 125; Type: Binary; Code_JEDEC: MS-012; ComponentLink1Description: Manufacturer URL; ComponentLink1URL: http://www.ti.com/; ComponentLink2Description: Datasheet; ComponentLink2URL: http://www.ti.com/lit/ds/symlink/cd74hc4024.pdf; ComponentLink3Description: Package Specification; ComponentLink3URL: http://www.ti.com/lit/ml/mpds177g/mpds177g.pdf
footprint D0014A_N (SOIC, 14-Leads, Body 8.75x4mm, Pitch 1.27mm, IPC Medium Density)
footprint D0014A_M (SOIC, 14-Leads, Body 8.75x4mm, Pitch 1.27mm, IPC Low Density)
footprint D0014A_L (SOIC, 14-Leads, Body 8.75x4mm, Pitch 1.27mm, IPC High Density)
pins: 1 CP (in), 2 MR (in), 3 Q7 (out), 4 Q6 (out), 5 Q5 (out), 6 Q4 (out), 7 GND (power), 8 NC, 9 Q3 (out), 10 NC, 11 Q2 (out), 12 Q1' (out), 13 NC, 14 VCC (power)

## CD74HC4024MT
designator U?
High Speed CMOS Logic 7-Stage Binary Ripple Counter, D0014A, SMALL T&R; Generic Part Number: CD74HC4024; Manufacturer: Texas Instruments; PartNumber: CD74HC4024MT; VCC(Min)(V): 2; VCC(Max)(V): 6; Inputs: 1; ICC @ Nom Voltage(Max)(mA): 0.08; Input Type: LVTTL/CMOS; Bits(#): 7; F @ Nom Voltage(Max)(Mhz): 28; Rating: Catalog; Technology Family: HC; Voltage(Nom)(V): 3.3,5; Schmitt Trigger: No; Output Drive (IOL/IOH)(Max)(mA): 5.2/-5.2; tpd @ Nom Voltage(Max)(ns): 30; DatasheetVersion: SCHS202C; PackageReference: D0014A; Supplier 1: Mouser; Supplier Part Number 1: 595-CD74HC4024MT; Supplier 2: Digi-Key; Supplier Part Number 2: CD74HC4024MT-ND; Output Type: CMOS; Function: Counter; Operating Temperature Range(C): -55 to 125; Type: Binary; Code_JEDEC: MS-012; ComponentLink1Description: Manufacturer URL; ComponentLink1URL: http://www.ti.com/; ComponentLink2Description: Datasheet; ComponentLink2URL: http://www.ti.com/lit/ds/symlink/cd74hc4024.pdf; ComponentLink3Description: Package Specification; ComponentLink3URL: http://www.ti.com/lit/ml/mpds177g/mpds177g.pdf
footprint D0014A_N (SOIC, 14-Leads, Body 8.75x4mm, Pitch 1.27mm, IPC Medium Density)
footprint D0014A_M (SOIC, 14-Leads, Body 8.75x4mm, Pitch 1.27mm, IPC Low Density)
footprint D0014A_L (SOIC, 14-Leads, Body 8.75x4mm, Pitch 1.27mm, IPC High Density)
pins: 1 CP (in), 2 MR (in), 3 Q7 (out), 4 Q6 (out), 5 Q5 (out), 6 Q4 (out), 7 GND (power), 8 NC, 9 Q3 (out), 10 NC, 11 Q2 (out), 12 Q1' (out), 13 NC, 14 VCC (power)

## CD74HC4024PW
designator U?
High Speed CMOS Logic 7-Stage Binary Ripple Counter, PW0014A, TUBE; Generic Part Number: CD74HC4024; Manufacturer: Texas Instruments; PartNumber: CD74HC4024PW; VCC(Min)(V): 2; VCC(Max)(V): 6; Inputs: 1; ICC @ Nom Voltage(Max)(mA): 0.08; Input Type: LVTTL/CMOS; Bits(#): 7; F @ Nom Voltage(Max)(Mhz): 28; Rating: Catalog; Technology Family: HC; Voltage(Nom)(V): 3.3,5; Schmitt Trigger: No; Output Drive (IOL/IOH)(Max)(mA): 5.2/-5.2; tpd @ Nom Voltage(Max)(ns): 30; DatasheetVersion: SCHS202C; PackageReference: PW0014A; Supplier 1: Mouser; Supplier Part Number 1: 595-CD74HC4024PW; Supplier 2: Digi-Key; Supplier Part Number 2: 296-33084-5-ND; Output Type: CMOS; Function: Counter; Operating Temperature Range(C): -55 to 125; Type: Binary; Code_JEDEC: MO-153; ComponentLink1Description: Manufacturer URL; ComponentLink1URL: http://www.ti.com/; ComponentLink2Description: Datasheet; ComponentLink2URL: http://www.ti.com/lit/ds/symlink/cd74hc4024.pdf; ComponentLink3Description: Package Specification; ComponentLink3URL: http://www.ti.com/lit/ml/mpds360/mpds360.pdf
footprint PW0014A_N (SOP, 14-Leads, Body 5.1x4.5mm, Pitch 0.65mm, IPC Medium Density)
footprint PW0014A_M (SOP, 14-Leads, Body 5.1x4.5mm, Pitch 0.65mm, IPC Low Density)
footprint PW0014A_L (SOP, 14-Leads, Body 5.1x4.5mm, Pitch 0.65mm, IPC High Density)
pins: 1 CP (in), 2 MR (in), 3 Q7 (out), 4 Q6 (out), 5 Q5 (out), 6 Q4 (out), 7 GND (power), 8 NC, 9 Q3 (out), 10 NC, 11 Q2 (out), 12 Q1' (out), 13 NC, 14 VCC (power)

## CD74HC4024PWR
designator U?
High Speed CMOS Logic 7-Stage Binary Ripple Counter, PW0014A, LARGE T&R; Generic Part Number: CD74HC4024; Manufacturer: Texas Instruments; PartNumber: CD74HC4024PWR; VCC(Min)(V): 2; VCC(Max)(V): 6; Inputs: 1; ICC @ Nom Voltage(Max)(mA): 0.08; Input Type: LVTTL/CMOS; Bits(#): 7; F @ Nom Voltage(Max)(Mhz): 28; Rating: Catalog; Technology Family: HC; Voltage(Nom)(V): 3.3,5; Schmitt Trigger: No; Output Drive (IOL/IOH)(Max)(mA): 5.2/-5.2; tpd @ Nom Voltage(Max)(ns): 30; DatasheetVersion: SCHS202C; PackageReference: PW0014A; Supplier 1: Mouser; Supplier Part Number 1: 595-CD74HC4024PWR; Supplier 2: Digi-Key; Supplier Part Number 2: 296-31587-2-ND; Supplier 3: Digi-Key; Supplier Part Number 3: 296-31587-1-ND; Supplier 4: Digi-Key; Supplier Part Number 4: 296-31587-6-ND; Output Type: CMOS; Function: Counter; Operating Temperature Range(C): -55 to 125; Type: Binary; Code_JEDEC: MO-153; ComponentLink1Description: Manufacturer URL; ComponentLink1URL: http://www.ti.com/; ComponentLink2Description: Datasheet; ComponentLink2URL: http://www.ti.com/lit/ds/symlink/cd74hc4024.pdf; ComponentLink3Description: Package Specification; ComponentLink3URL: http://www.ti.com/lit/ml/mpds360/mpds360.pdf
footprint PW0014A_N (SOP, 14-Leads, Body 5.1x4.5mm, Pitch 0.65mm, IPC Medium Density)
footprint PW0014A_M (SOP, 14-Leads, Body 5.1x4.5mm, Pitch 0.65mm, IPC Low Density)
footprint PW0014A_L (SOP, 14-Leads, Body 5.1x4.5mm, Pitch 0.65mm, IPC High Density)
pins: 1 CP (in), 2 MR (in), 3 Q7 (out), 4 Q6 (out), 5 Q5 (out), 6 Q4 (out), 7 GND (power), 8 NC, 9 Q3 (out), 10 NC, 11 Q2 (out), 12 Q1' (out), 13 NC, 14 VCC (power)

## CD74HC4024PWT
designator U?
High Speed CMOS Logic 7-Stage Binary Ripple Counter, PW0014A, SMALL T&R; Generic Part Number: CD74HC4024; Manufacturer: Texas Instruments; PartNumber: CD74HC4024PWT; VCC(Min)(V): 2; VCC(Max)(V): 6; Inputs: 1; ICC @ Nom Voltage(Max)(mA): 0.08; Input Type: LVTTL/CMOS; Bits(#): 7; F @ Nom Voltage(Max)(Mhz): 28; Rating: Catalog; Technology Family: HC; Voltage(Nom)(V): 3.3,5; Schmitt Trigger: No; Output Drive (IOL/IOH)(Max)(mA): 5.2/-5.2; tpd @ Nom Voltage(Max)(ns): 30; DatasheetVersion: SCHS202C; PackageReference: PW0014A; Supplier 1: Mouser; Supplier Part Number 1: 595-CD74HC4024PWT; Supplier 2: Digi-Key; Supplier Part Number 2: CD74HC4024PWT-ND; Output Type: CMOS; Function: Counter; Operating Temperature Range(C): -55 to 125; Type: Binary; Code_JEDEC: MO-153; ComponentLink1Description: Manufacturer URL; ComponentLink1URL: http://www.ti.com/; ComponentLink2Description: Datasheet; ComponentLink2URL: http://www.ti.com/lit/ds/symlink/cd74hc4024.pdf; ComponentLink3Description: Package Specification; ComponentLink3URL: http://www.ti.com/lit/ml/mpds360/mpds360.pdf
footprint PW0014A_N (SOP, 14-Leads, Body 5.1x4.5mm, Pitch 0.65mm, IPC Medium Density)
footprint PW0014A_M (SOP, 14-Leads, Body 5.1x4.5mm, Pitch 0.65mm, IPC Low Density)
footprint PW0014A_L (SOP, 14-Leads, Body 5.1x4.5mm, Pitch 0.65mm, IPC High Density)
pins: 1 CP (in), 2 MR (in), 3 Q7 (out), 4 Q6 (out), 5 Q5 (out), 6 Q4 (out), 7 GND (power), 8 NC, 9 Q3 (out), 10 NC, 11 Q2 (out), 12 Q1' (out), 13 NC, 14 VCC (power)

## CD74HC4040E
designator U?
High Speed CMOS Logic 12-Stage Binary Counter, N0016A, TUBE; Generic Part Number: CD74HC4040; Manufacturer: Texas Instruments; PartNumber: CD74HC4040E; VCC(Min)(V): 2; VCC(Max)(V): 6; Inputs: 1; ICC @ Nom Voltage(Max)(mA): 0.08; Input Type: LVTTL/CMOS; Bits(#): 12; F @ Nom Voltage(Max)(Mhz): 28; Rating: Catalog; Technology Family: HC; Voltage(Nom)(V): 3.3,5; Schmitt Trigger: No; Output Drive (IOL/IOH)(Max)(mA): 5.2/-5.2; tpd @ Nom Voltage(Max)(ns): 30; DatasheetVersion: SCHS203D; PackageReference: N0016A; Supplier 1: Mouser; Supplier Part Number 1: 595-CD74HC4040E; Supplier 2: Digi-Key; Supplier Part Number 2: 296-25993-5-ND; Output Type: CMOS; Function: Counter; Operating Temperature Range(C): -55 to 125; Type: Binary; Code_JEDEC: MS-001; ComponentLink1Description: Manufacturer URL; ComponentLink1URL: http://www.ti.com/; ComponentLink2Description: Datasheet; ComponentLink2URL: http://www.ti.com/lit/ds/symlink/cd74hc4040.pdf; ComponentLink3Description: Package Specification; ComponentLink3URL: http://www.ti.com/lit/ml/mpdi002c/mpdi002c.pdf
footprint N0016A (DIP, 16-Leads, Body 19.7x6.6mm, Pitch 2.54mm)
pins: 1 Q12 (out), 2 Q6 (out), 3 Q5 (out), 4 Q7 (out), 5 Q4 (out), 6 Q3 (out), 7 Q2 (out), 8 GND (power), 9 Q1' (out), 10 CP (in), 11 MR (in), 12 Q9 (out), 13 Q8 (out), 14 Q10 (out), 15 Q11 (out), 16 VCC (power)

## CD74HC4040M
designator U?
High Speed CMOS Logic 12-Stage Binary Counter, D0016A, TUBE; Generic Part Number: CD74HC4040; Manufacturer: Texas Instruments; PartNumber: CD74HC4040M; VCC(Min)(V): 2; VCC(Max)(V): 6; Inputs: 1; ICC @ Nom Voltage(Max)(mA): 0.08; Input Type: LVTTL/CMOS; Bits(#): 12; F @ Nom Voltage(Max)(Mhz): 28; Rating: Catalog; Technology Family: HC; Voltage(Nom)(V): 3.3,5; Schmitt Trigger: No; Output Drive (IOL/IOH)(Max)(mA): 5.2/-5.2; tpd @ Nom Voltage(Max)(ns): 30; DatasheetVersion: SCHS203D; PackageReference: D0016A; Supplier 1: Mouser; Supplier Part Number 1: 595-CD74HC4040M; Supplier 2: Digi-Key; Supplier Part Number 2: 296-25994-5-ND; Output Type: CMOS; Function: Counter; Operating Temperature Range(C): -55 to 125; Type: Binary; Code_JEDEC: MS-012 variation AC; ComponentLink1Description: Manufacturer URL; ComponentLink1URL: http://www.ti.com/; ComponentLink2Description: Datasheet; ComponentLink2URL: http://www.ti.com/lit/ds/symlink/cd74hc4040.pdf; ComponentLink3Description: Package Specification; ComponentLink3URL: http://www.ti.com/lit/ml/mpds178g/mpds178g.pdf
footprint D0016A_N (SOIC, 16-Leads, Body 10x4mm, Pitch 1.27mm, IPC Medium Density)
footprint D0016A_M (SOIC, 16-Leads, Body 10x4mm, Pitch 1.27mm, IPC Low Density)
footprint D0016A_L (SOIC, 16-Leads, Body 10x4mm, Pitch 1.27mm, IPC High Density)
pins: 1 Q12 (out), 2 Q6 (out), 3 Q5 (out), 4 Q7 (out), 5 Q4 (out), 6 Q3 (out), 7 Q2 (out), 8 GND (power), 9 Q1' (out), 10 CP (in), 11 MR (in), 12 Q9 (out), 13 Q8 (out), 14 Q10 (out), 15 Q11 (out), 16 VCC (power)

## CD74HC4040M96
designator U?
High Speed CMOS Logic 12-Stage Binary Counter, D0016A, LARGE T&R; Generic Part Number: CD74HC4040; Manufacturer: Texas Instruments; PartNumber: CD74HC4040M96; VCC(Min)(V): 2; VCC(Max)(V): 6; Inputs: 1; ICC @ Nom Voltage(Max)(mA): 0.08; Input Type: LVTTL/CMOS; Bits(#): 12; F @ Nom Voltage(Max)(Mhz): 28; Rating: Catalog; Technology Family: HC; Voltage(Nom)(V): 3.3,5; Schmitt Trigger: No; Output Drive (IOL/IOH)(Max)(mA): 5.2/-5.2; tpd @ Nom Voltage(Max)(ns): 30; DatasheetVersion: SCHS203D; PackageReference: D0016A; Supplier 1: Mouser; Supplier Part Number 1: 595-CD74HC4040M96; Supplier 2: Digi-Key; Supplier Part Number 2: 296-14527-2-ND; Supplier 3: Digi-Key; Supplier Part Number 3: 296-14527-1-ND; Supplier 4: Digi-Key; Supplier Part Number 4: 296-14527-6-ND; Output Type: CMOS; Function: Counter; Operating Temperature Range(C): -55 to 125; Type: Binary; Code_JEDEC: MS-012 variation AC; ComponentLink1Description: Manufacturer URL; ComponentLink1URL: http://www.ti.com/; ComponentLink2Description: Datasheet; ComponentLink2URL: http://www.ti.com/lit/ds/symlink/cd74hc4040.pdf; ComponentLink3Description: Package Specification; ComponentLink3URL: http://www.ti.com/lit/ml/mpds178g/mpds178g.pdf
footprint D0016A_N (SOIC, 16-Leads, Body 10x4mm, Pitch 1.27mm, IPC Medium Density)
footprint D0016A_M (SOIC, 16-Leads, Body 10x4mm, Pitch 1.27mm, IPC Low Density)
footprint D0016A_L (SOIC, 16-Leads, Body 10x4mm, Pitch 1.27mm, IPC High Density)
pins: 1 Q12 (out), 2 Q6 (out), 3 Q5 (out), 4 Q7 (out), 5 Q4 (out), 6 Q3 (out), 7 Q2 (out), 8 GND (power), 9 Q1' (out), 10 CP (in), 11 MR (in), 12 Q9 (out), 13 Q8 (out), 14 Q10 (out), 15 Q11 (out), 16 VCC (power)

## CD74HC4040MT
designator U?
High Speed CMOS Logic 12-Stage Binary Counter, D0016A, SMALL T&R; Generic Part Number: CD74HC4040; Manufacturer: Texas Instruments; PartNumber: CD74HC4040MT; VCC(Min)(V): 2; VCC(Max)(V): 6; Inputs: 1; ICC @ Nom Voltage(Max)(mA): 0.08; Input Type: LVTTL/CMOS; Bits(#): 12; F @ Nom Voltage(Max)(Mhz): 28; Rating: Catalog; Technology Family: HC; Voltage(Nom)(V): 3.3,5; Schmitt Trigger: No; Output Drive (IOL/IOH)(Max)(mA): 5.2/-5.2; tpd @ Nom Voltage(Max)(ns): 30; DatasheetVersion: SCHS203D; PackageReference: D0016A; Supplier 1: Mouser; Supplier Part Number 1: 595-CD74HC4040MT; Supplier 2: Digi-Key; Supplier Part Number 2: CD74HC4040MT-ND; Output Type: CMOS; Function: Counter; Operating Temperature Range(C): -55 to 125; Type: Binary; Code_JEDEC: MS-012 variation AC; ComponentLink1Description: Manufacturer URL; ComponentLink1URL: http://www.ti.com/; ComponentLink2Description: Datasheet; ComponentLink2URL: http://www.ti.com/lit/ds/symlink/cd74hc4040.pdf; ComponentLink3Description: Package Specification; ComponentLink3URL: http://www.ti.com/lit/ml/mpds178g/mpds178g.pdf
footprint D0016A_N (SOIC, 16-Leads, Body 10x4mm, Pitch 1.27mm, IPC Medium Density)
footprint D0016A_M (SOIC, 16-Leads, Body 10x4mm, Pitch 1.27mm, IPC Low Density)
footprint D0016A_L (SOIC, 16-Leads, Body 10x4mm, Pitch 1.27mm, IPC High Density)
pins: 1 Q12 (out), 2 Q6 (out), 3 Q5 (out), 4 Q7 (out), 5 Q4 (out), 6 Q3 (out), 7 Q2 (out), 8 GND (power), 9 Q1' (out), 10 CP (in), 11 MR (in), 12 Q9 (out), 13 Q8 (out), 14 Q10 (out), 15 Q11 (out), 16 VCC (power)

## CD74HC4046AE
designator U?
High Speed CMOS Logic Phase-Locked-Loop with VCO, N0016A, TUBE; Generic Part Number: CD74HC4046A; Manufacturer: Texas Instruments; PartNumber: CD74HC4046AE; VCC(Min)(V): 2; VCC(Max)(V): 6; ICC @ Nom Voltage(Max)(mA): 0.08; Bits(#): 1; F @ Nom Voltage(Max)(Mhz): 70; Rating: Catalog; Technology Family: HC; Voltage(Nom)(V): 3.3,5; Schmitt Trigger: No; Output Drive (IOL/IOH)(Max)(mA): 5.2/-5.2; tpd @ Nom Voltage(Max)(ns): 64; DatasheetVersion: SCHS204J; PackageReference: N0016A; Supplier 1: Mouser; Supplier Part Number 1: 595-CD74HC4046AE; Supplier 2: Digi-Key; Supplier Part Number 2: 296-9208-5-ND; Output Type: CMOS; Input Type: CMOS; Operating Temperature Range(C): -55 to 125; ComponentLink1Description: Manufacturer URL; ComponentLink1URL: http://www.ti.com/; ComponentLink2Description: Datasheet; ComponentLink2URL: http://www.ti.com/lit/ds/symlink/cd74hc4046a.pdf
footprint N0016A (DIP, 16-Leads, Body 19.7x6.6mm, Pitch 2.54mm)
part A pins: 1 PCPOUT (out) "Phase comparator pulse output", 2 PC1OUT (out) "Phase comparator 1 output", 3 COMPIN (in) "Comparator input", 13 PC2OUT (hiz) "Phase comparator 2 output", 14 SIGIN (in) "Signal input", 15 PC3OUT (out) "Phase comparator 3 output"
part B pins: 4 VCOOUT (out) "VCO output", 5 INH (in) "Inhibit input", 6 C1A "Capacitor C1 connection A", 7 C1B "Capacitor C1 connection B", 9 VCOIN (in) "VCO input", 10 DEMOUT (out) "Demodulator output", 11 R1 "Resistor R1 connection", 12 R2 "Resistor R2 connection"
part C pins: 8 GND (power) "Ground (0 V)", 16 VCC (power) "Positive supply voltage"

## CD74HC4046AM
designator U?
High Speed CMOS Logic Phase-Locked-Loop with VCO, D0016A, TUBE; Generic Part Number: CD74HC4046A; Manufacturer: Texas Instruments; PartNumber: CD74HC4046AM; VCC(Min)(V): 2; VCC(Max)(V): 6; ICC @ Nom Voltage(Max)(mA): 0.08; Bits(#): 1; F @ Nom Voltage(Max)(Mhz): 70; Rating: Catalog; Technology Family: HC; Voltage(Nom)(V): 3.3,5; Schmitt Trigger: No; Output Drive (IOL/IOH)(Max)(mA): 5.2/-5.2; tpd @ Nom Voltage(Max)(ns): 64; DatasheetVersion: SCHS204J; PackageReference: D0016A; Supplier 1: Mouser; Supplier Part Number 1: 595-CD74HC4046AM; Supplier 2: Digi-Key; Supplier Part Number 2: 296-9209-5-ND; Output Type: CMOS; Input Type: CMOS; Operating Temperature Range(C): -55 to 125; ComponentLink1Description: Manufacturer URL; ComponentLink1URL: http://www.ti.com/; ComponentLink2Description: Datasheet; ComponentLink2URL: http://www.ti.com/lit/ds/symlink/cd74hc4046a.pdf
footprint D0016A_N (SOIC, 16-Leads, Body 10x4mm, Pitch 1.27mm, IPC Medium Density)
footprint D0016A_M (SOIC, 16-Leads, Body 10x4mm, Pitch 1.27mm, IPC Low Density)
footprint D0016A_L (SOIC, 16-Leads, Body 10x4mm, Pitch 1.27mm, IPC High Density)
part A pins: 1 PCPOUT (out) "Phase comparator pulse output", 2 PC1OUT (out) "Phase comparator 1 output", 3 COMPIN (in) "Comparator input", 13 PC2OUT (hiz) "Phase comparator 2 output", 14 SIGIN (in) "Signal input", 15 PC3OUT (out) "Phase comparator 3 output"
part B pins: 4 VCOOUT (out) "VCO output", 5 INH (in) "Inhibit input", 6 C1A "Capacitor C1 connection A", 7 C1B "Capacitor C1 connection B", 9 VCOIN (in) "VCO input", 10 DEMOUT (out) "Demodulator output", 11 R1 "Resistor R1 connection", 12 R2 "Resistor R2 connection"
part C pins: 8 GND (power) "Ground (0 V)", 16 VCC (power) "Positive supply voltage"

## CD74HC4046AM96
designator U?
High Speed CMOS Logic Phase-Locked-Loop with VCO, D0016A, LARGE T&R; Generic Part Number: CD74HC4046A; Manufacturer: Texas Instruments; PartNumber: CD74HC4046AM96; VCC(Min)(V): 2; VCC(Max)(V): 6; ICC @ Nom Voltage(Max)(mA): 0.08; Bits(#): 1; F @ Nom Voltage(Max)(Mhz): 70; Rating: Catalog; Technology Family: HC; Voltage(Nom)(V): 3.3,5; Schmitt Trigger: No; Output Drive (IOL/IOH)(Max)(mA): 5.2/-5.2; tpd @ Nom Voltage(Max)(ns): 64; DatasheetVersion: SCHS204J; PackageReference: D0016A; Supplier 1: Mouser; Supplier Part Number 1: 595-CD74HC4046AM96; Supplier 2: Digi-Key; Supplier Part Number 2: 296-14528-2-ND; Supplier 3: Digi-Key; Supplier Part Number 3: 296-14528-1-ND; Supplier 4: Digi-Key; Supplier Part Number 4: 296-14528-6-ND; Output Type: CMOS; Input Type: CMOS; Operating Temperature Range(C): -55 to 125; ComponentLink1Description: Manufacturer URL; ComponentLink1URL: http://www.ti.com/; ComponentLink2Description: Datasheet; ComponentLink2URL: http://www.ti.com/lit/ds/symlink/cd74hc4046a.pdf
footprint D0016A_N (SOIC, 16-Leads, Body 10x4mm, Pitch 1.27mm, IPC Medium Density)
footprint D0016A_M (SOIC, 16-Leads, Body 10x4mm, Pitch 1.27mm, IPC Low Density)
footprint D0016A_L (SOIC, 16-Leads, Body 10x4mm, Pitch 1.27mm, IPC High Density)
part A pins: 1 PCPOUT (out) "Phase comparator pulse output", 2 PC1OUT (out) "Phase comparator 1 output", 3 COMPIN (in) "Comparator input", 13 PC2OUT (hiz) "Phase comparator 2 output", 14 SIGIN (in) "Signal input", 15 PC3OUT (out) "Phase comparator 3 output"
part B pins: 4 VCOOUT (out) "VCO output", 5 INH (in) "Inhibit input", 6 C1A "Capacitor C1 connection A", 7 C1B "Capacitor C1 connection B", 9 VCOIN (in) "VCO input", 10 DEMOUT (out) "Demodulator output", 11 R1 "Resistor R1 connection", 12 R2 "Resistor R2 connection"
part C pins: 8 GND (power) "Ground (0 V)", 16 VCC (power) "Positive supply voltage"

## CD74HC4046AMT
designator U?
High Speed CMOS Logic Phase-Locked-Loop with VCO, D0016A, SMALL T&R; Generic Part Number: CD74HC4046A; Manufacturer: Texas Instruments; PartNumber: CD74HC4046AMT; VCC(Min)(V): 2; VCC(Max)(V): 6; ICC @ Nom Voltage(Max)(mA): 0.08; Bits(#): 1; F @ Nom Voltage(Max)(Mhz): 70; Rating: Catalog; Technology Family: HC; Voltage(Nom)(V): 3.3,5; Schmitt Trigger: No; Output Drive (IOL/IOH)(Max)(mA): 5.2/-5.2; tpd @ Nom Voltage(Max)(ns): 64; DatasheetVersion: SCHS204J; PackageReference: D0016A; Supplier 1: Mouser; Supplier Part Number 1: 595-CD74HC4046AMT; Supplier 2: Digi-Key; Supplier Part Number 2: 296-32068-2-ND; Supplier 3: Digi-Key; Supplier Part Number 3: 296-32068-1-ND; Supplier 4: Digi-Key; Supplier Part Number 4: 296-32068-6-ND; Output Type: CMOS; Input Type: CMOS; Operating Temperature Range(C): -55 to 125; ComponentLink1Description: Manufacturer URL; ComponentLink1URL: http://www.ti.com/; ComponentLink2Description: Datasheet; ComponentLink2URL: http://www.ti.com/lit/ds/symlink/cd74hc4046a.pdf
footprint D0016A_N (SOIC, 16-Leads, Body 10x4mm, Pitch 1.27mm, IPC Medium Density)
footprint D0016A_M (SOIC, 16-Leads, Body 10x4mm, Pitch 1.27mm, IPC Low Density)
footprint D0016A_L (SOIC, 16-Leads, Body 10x4mm, Pitch 1.27mm, IPC High Density)
part A pins: 1 PCPOUT (out) "Phase comparator pulse output", 2 PC1OUT (out) "Phase comparator 1 output", 3 COMPIN (in) "Comparator input", 13 PC2OUT (hiz) "Phase comparator 2 output", 14 SIGIN (in) "Signal input", 15 PC3OUT (out) "Phase comparator 3 output"
part B pins: 4 VCOOUT (out) "VCO output", 5 INH (in) "Inhibit input", 6 C1A "Capacitor C1 connection A", 7 C1B "Capacitor C1 connection B", 9 VCOIN (in) "VCO input", 10 DEMOUT (out) "Demodulator output", 11 R1 "Resistor R1 connection", 12 R2 "Resistor R2 connection"
part C pins: 8 GND (power) "Ground (0 V)", 16 VCC (power) "Positive supply voltage"